# EAGLE library part ADA_DRV8871 (library Richard_Boards)
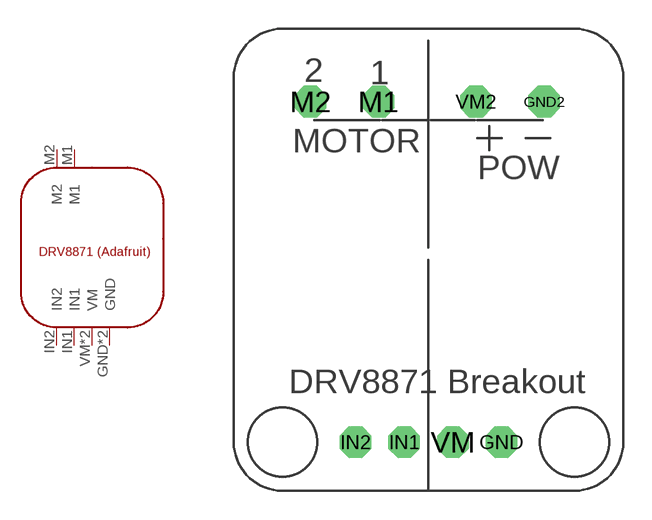
[diagram p2: symbol with the pads of ADA_DRV8871; footprint ADA_DRV8871]

Designator prefix -

## ADA_DRV8871  [ADA_DRV8871]
GND  GND  pas
GND2  GND  pas
IN1  IN1  pas
IN2  IN2  pas
M1  M1  pas
M2  M2  pas
VM  VM  pas
VM2  VM  pas

## Footprint ADA_DRV8871 (pad centres in mm)
drill 1.1 octagon: GND 3.81,-9.525; GND2 6.032,8.255; IN1 -1.27,-9.525; IN2 -3.81,-9.525; M1 -2.603,8.255; M2 -6.16,8.255; VM 1.27,-9.525; VM2 2.477,8.255